# Altium schematic symbol library Bosch.SchLib: 2 symbols
Pins are listed as number, name and electrical type; pins without a type are passive.

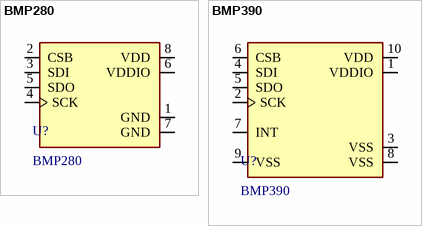
[diagram p0: symbols BMP280 to BMP390]

## BMP280
designator U?
BMP280 Absolute Barometric Pressure Sensor for Battery Powered Devices 2 x 2.5mm; Manufacturer: Bosch; Categories: Sensors, Transducers; Operating Pressure: 4.35 PSI ~ 15.95 PSI (30 kPa ~ 110 kPa); Output Type: I²C, SPI; Output: 16b; Accuracy: ±0.015 PSI (±0.1 kPa); Voltage - Supply: 1.71 V ~ 3.6 V; Port Style: No Port; Maximum Pressure: 290.08 PSI (2000 kPa); Supplier 1: Digi-Key; Manufacturer Part Number: BMP280; Stock 1: 0; Pricing 1: 1=3.26, 5=3.022, 10=2.511, 25=2.0924, 50=1.86, 100=1.767, 500=1.488, 1000=1.395, 5000=1.302 (USD); Series: -; Part Status: Active; Pressure Type: Absolute; Port Size: -; Features: Standby Mode; Termination Style: SMD (SMT) Tab; Operating Temperature: -40°C ~ 85°C; Package / Case: 8-SMD; Supplier Device Package: 8-SMD; Supplier Part Number 1: 828-1064-1-ND
footprint BMP280
pins: 1 GND (power), 2 CSB (io), 3 SDI (io), 4 SCK (io), 5 SDO (io), 6 VDDIO (power), 7 GND (power), 8 VDD (power)

## BMP390
designator U?
Supplier 1: Mouser; Supplier Part Number 1: 262-BMP390
pins: 1 VDDIO (power), 2 SCK (io), 3 VSS (power), 4 SDI (io), 5 SDO (io), 6 CSB (io), 7 INT, 8 VSS (power), 9 VSS (power), 10 VDD (power)